# EAGLE library part MICROSD (library Sparky)
Micro-SD / Transflash card holder with SPI pinout For the 3M # 2908-05WB-MG and/or 4UCON #19656 push-push type
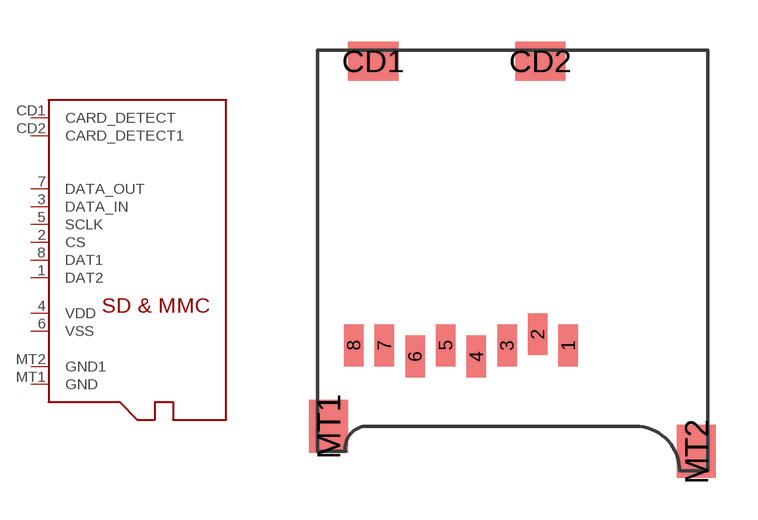
[diagram p2: symbol with the pads of MICROSD; footprint MICROSD]

Designator prefix -

## MICROSD  [MICROSD]
1  DAT2
2  CS  in
3  DATA_IN  in
4  VDD  sup
5  SCLK  in
6  VSS  sup
7  DATA_OUT  out
8  DAT1
CD1  CARD_DETECT  pas
CD2  CARD_DETECT1  pas
MT1  GND  sup
MT2  GND1  sup

## Footprint MICROSD (pad centres in mm)
smd 0.7 x 1.5: 1 2.015,-4.29; 2 0.915,-3.89; 3 -0.185,-4.29; 4 -1.285,-4.69; 5 -2.385,-4.29; 6 -3.485,-4.69; 7 -4.585,-4.29; 8 -5.685,-4.29
smd 1.8 x 1.4: CD1 -4.985,5.91; CD2 1.015,5.91
smd 1.4 x 1.9: MT1 -6.585,-7.19; MT2 6.615,-8.09